# EAGLE library part DSPIC33FJ16GS502-I/SP (library Microchip_By_element14_Batch_1)
16-bit Digital Signal Controllers
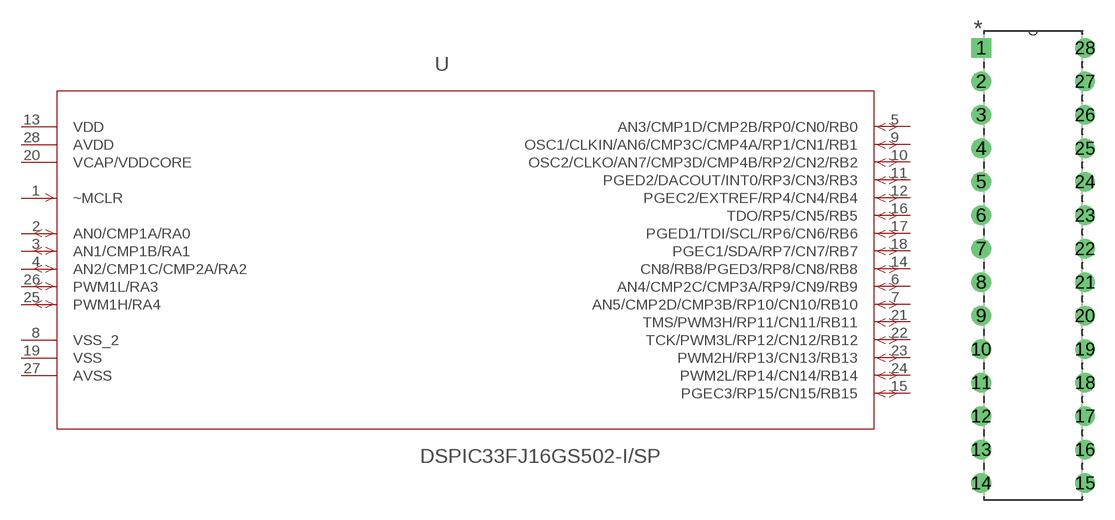
[diagram p382: symbol with the pads of DIP254P762X508-28; footprint DIP254P762X508-28]

Designator prefix -

## DSPIC33FJ16GS502-I/SP (DESCRIPTION: 16-bit Digital Signal Controllers; MPN: DSPIC33FJ16GS502-I/SP; OC_FARNELL: 1778688; OC_NEWARK: 77M2355; PACKAGE: DIP-28; SUPPLIER: Microchip)  [DIP254P762X508-28]
1  ~MCLR  in
2  AN0/CMP1A/RA0
3  AN1/CMP1B/RA1
4  AN2/CMP1C/CMP2A/RA2
5  AN3/CMP1D/CMP2B/RP0/CN0/RB0
6  AN4/CMP2C/CMP3A/RP9/CN9/RB9
7  AN5/CMP2D/CMP3B/RP10/CN10/RB10
8  VSS_2  pwr
9  OSC1/CLKIN/AN6/CMP3C/CMP4A/RP1/CN1/RB1
10  OSC2/CLKO/AN7/CMP3D/CMP4B/RP2/CN2/RB2
11  PGED2/DACOUT/INT0/RP3/CN3/RB3
12  PGEC2/EXTREF/RP4/CN4/RB4
13  VDD  pwr
14  CN8/RB8/PGED3/RP8/CN8/RB8
15  PGEC3/RP15/CN15/RB15
16  TDO/RP5/CN5/RB5
17  PGED1/TDI/SCL/RP6/CN6/RB6
18  PGEC1/SDA/RP7/CN7/RB7
19  VSS  pwr
20  VCAP/VDDCORE  pwr
21  TMS/PWM3H/RP11/CN11/RB11
22  TCK/PWM3L/RP12/CN12/RB12
23  PWM2H/RP13/CN13/RB13
24  PWM2L/RP14/CN14/RB14
25  PWM1H/RA4
26  PWM1L/RA3
27  AVSS  pwr
28  AVDD  pwr

## Footprint DIP254P762X508-28 (pad centres in mm)
drill 0.991 square: 1 -7.874,33.02
drill 0.991: 2 -7.874,30.48; 3 -7.874,27.94; 4 -7.874,25.4; 5 -7.874,22.86; 6 -7.874,20.32; 7 -7.874,17.78; 8 -7.874,15.24; 9 -7.874,12.7; 10 -7.874,10.16; 11 -7.874,7.62; 12 -7.874,5.08; 13 -7.874,2.54; 14 -7.874,0; 15 0,0; 16 0,2.54; 17 0,5.08; 18 0,7.62; 19 0,10.16; 20 0,12.7; 21 0,15.24; 22 0,17.78; 23 0,20.32; 24 0,22.86; 25 0,25.4; 26 0,27.94; 27 0,30.48; 28 0,33.02